# EAGLE library part 88880-066LF (library 88880-066LF)
Check availability <https://pricing.snapeda.com/parts/88880-066LF/Amphenol%20ICC%20%28FCI%29/view-part?ref=eda>
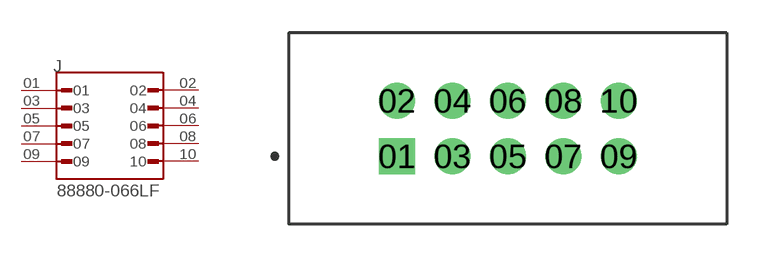
[diagram p0: symbol with the pads of AMPHENOL_88880-066LF; footprint AMPHENOL_88880-066LF]

Designator prefix J

## 88880-066LF (Availability: In Stock; Description: Quickie® IDC Cable-to-Board Connector System, Shrouded Slim Line Header, Vertical, Through Hole, Double Row, 10 Positions, 2.54mm (0.100in) Pitch.; MF: Amphenol ICC (FCI); MP: 88880-066LF; Package: None; Price: None; Purchase-URL: https://pricing.snapeda.com/search?q=88880-066LF&ref=eda)  [AMPHENOL_88880-066LF]
01  01  pas
02  02  pas
03  03  pas
04  04  pas
05  05  pas
06  06  pas
07  07  pas
08  08  pas
09  09  pas
10  10  pas

## Footprint AMPHENOL_88880-066LF (pad centres in mm)
drill 1.1 pad 1.65 square: 01 -5.08,-1.27
drill 1.1 pad 1.65: 02 -5.08,1.27; 03 -2.54,-1.27; 04 -2.54,1.27; 05 0,-1.27; 06 0,1.27; 07 2.54,-1.27; 08 2.54,1.27; 09 5.08,-1.27; 10 5.08,1.27